# EAGLE library part WE-PPTI_1308 (library WE-PPTI)
WE-PPTI Push-Pull Transformers Characteristics Small size Surface mount Low profile Operating temp: -40°C to 125°C Functional or Reinforced Insulation Applications Isolated interface power supply for CAN, RS-485, RS-422, RS-232, SPI, I2C, lower-power LAN Industrial automation Process control Medical equipment PLC analog and digital I/O modules Isolated gate driver power supplies AC motor drives Uninterruptible power supplies (UPS) Solar inverters Polyphase energy meters Protection relays and IEDs <https://www.we-online.com/components/media/o715993v209%20Family-PPTI.jpg> Details see: www.we-online.com/en/components/products/WE-PPTI <www.we-online.com/catalog/WE-PPTI/?utm_source=eagle_model&utm_medium=description_link&utm_campaign=eisos_eagle> Updated by Ella Wu 2024-09-11 2024 (C) Würth Elektronik
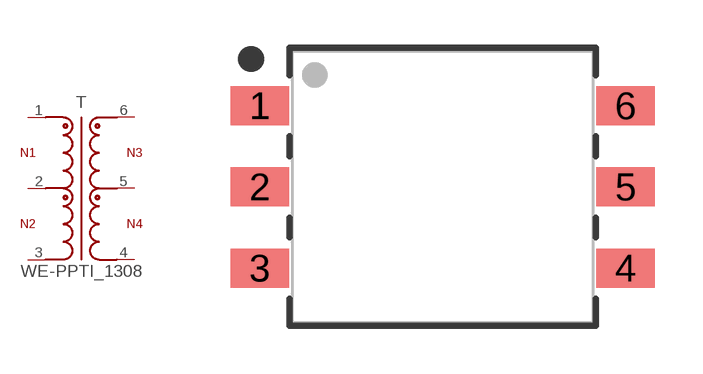
[diagram p0: symbol with the pads of WE-PPTI_1308_L13.12W8.5H5.5; footprint WE-PPTI_1308_L13.12W8.5H5.5]

Designator prefix T

## WE-PPTI_1308_750319690_L13.12W8.5H5.5 (DATASHEET-URL: https://www.we-online.com/redexpert/spec/750319690?ae; FSWITCH: 400 - 600kHz; HEIGHT: 5.5 mm; IOUT1: 700 mA; L: 100 uH; LENGTH: 13.12 mm; MOUNT: SMT; N: 1.75:1; PART-NUMBER: 750319690; SIZE: 1308; TYPE-OF-INSULATION: Functional; VALUE: 750319690; VIN: 12 V (DC); VOLTAGE-TIME: 18 Vus; VOUT1: 5 V (DC); VT: 2500 V (AC); WIDTH: 8.5 mm), WE-PPTI_1308_750319691_L13.12W8.5H5.5 (DATASHEET-URL: https://www.we-online.com/redexpert/spec/750319691?ae; FSWITCH: 400 - 600kHz; HEIGHT: 5.5 mm; IOUT1: 500 mA; L: 100 uH; LENGTH: 13.12 mm; MOUNT: SMT; N: 1:1.14; PART-NUMBER: 750319691; SIZE: 1308; TYPE-OF-INSULATION: Functional; VALUE: 750319691; VIN: 12 V (DC); VOLTAGE-TIME: 18 Vus; VOUT1: 12 V (DC); VT: 2500 V (AC); WIDTH: 8.5 mm), WE-PPTI_1308_750319692_L13.12W8.5H5.5 (DATASHEET-URL: https://www.we-online.com/redexpert/spec/750319692?ae; FSWITCH: 400 - 600kHz; HEIGHT: 5.5 mm; IOUT1: 400 mA; L: 260 uH; LENGTH: 13.12 mm; MOUNT: SMT; N: 1:1.33; PART-NUMBER: 750319692; SIZE: 1308; TYPE-OF-INSULATION: Functional; VALUE: 750319692; VIN: 12 V (DC); VOLTAGE-TIME: 23 Vus; VOUT1: 15 V (DC); VT: 2500 V (AC); WIDTH: 8.5 mm), WE-PPTI_1308_750319693_L13.12W8.5H5.5 (DATASHEET-URL: https://www.we-online.com/redexpert/spec/750319693?ae; FSWITCH: 400 - 600kHz; HEIGHT: 5.5 mm; IOUT1: 400 mA; L: 100 uH; LENGTH: 13.12 mm; MOUNT: SMT; N: 1:2.29; PART-NUMBER: 750319693; SIZE: 1308; TYPE-OF-INSULATION: Functional; VALUE: 750319693; VIN: 12 V (DC); VOLTAGE-TIME: 18 Vus; VOUT1: 24 V (DC); VT: 2500 V (AC); WIDTH: 8.5 mm), WE-PPTI_1308_750319694_L13.12W8.5H5.5 (DATASHEET-URL: https://www.we-online.com/redexpert/spec/750319694?ae; FSWITCH: 400 - 600kHz; HEIGHT: 5.5 mm; IOUT1: 750 mA; L: 600 uH; LENGTH: 13.12 mm; MOUNT: SMT; N: 4:1; PART-NUMBER: 750319694; SIZE: 1308; TYPE-OF-INSULATION: Functional; VALUE: 750319694; VIN: 24 V (DC); VOLTAGE-TIME: 40 Vus; VOUT1: 5 V (DC); VT: 2500 V (AC); WIDTH: 8.5 mm), WE-PPTI_1308_750319695_L13.12W8.5H5.5 (DATASHEET-URL: https://www.we-online.com/redexpert/spec/750319695?ae; FSWITCH: 400 - 600kHz; HEIGHT: 5.5 mm; IOUT1: 500 mA; L: 600 uH; LENGTH: 13.12 mm; MOUNT: SMT; N: 1.75:1; PART-NUMBER: 750319695; SIZE: 1308; TYPE-OF-INSULATION: Functional; VALUE: 750319695; VIN: 24 V (DC); VOLTAGE-TIME: 36 Vus; VOUT1: 12 V (DC); VT: 2500 V (AC); WIDTH: 8.5 mm), WE-PPTI_1308_750319696_L13.12W8.5H5.5 (DATASHEET-URL: https://www.we-online.com/redexpert/spec/750319696?ae; FSWITCH: 400 - 600kHz; HEIGHT: 5.5 mm; IOUT1: 400 mA; L: 500 uH; LENGTH: 13.12 mm; MOUNT: SMT; N: 1.4:1; PART-NUMBER: 750319696; SIZE: 1308; TYPE-OF-INSULATION: Functional; VALUE: 750319696; VIN: 24 V (DC); VOLTAGE-TIME: 36 Vus; VOUT1: 15 V (DC); VT: 2500 V (AC); WIDTH: 8.5 mm), WE-PPTI_1308_750319697_L13.12W8.5H5.5 (DATASHEET-URL: https://www.we-online.com/redexpert/spec/750319697?ae; FSWITCH: 400 - 600kHz; HEIGHT: 5.5 mm; IOUT1: 250 mA; L: 500 uH; LENGTH: 13.12 mm; MOUNT: SMT; N: 1:1.07; PART-NUMBER: 750319697; SIZE: 1308; TYPE-OF-INSULATION: Functional; VALUE: 750319697; VIN: 24 V (DC); VOLTAGE-TIME: 36 Vus; VOUT1: 24 V (DC); VT: 2500 V (AC); WIDTH: 8.5 mm), WE-PPTI_1308_750319948_L13.12W8.5H5.5 (DATASHEET-URL: https://www.we-online.com/redexpert/spec/750319948?ae; FSWITCH: 400 - 600kHz; HEIGHT: 5.5 mm; IOUT1: 200 mA; L: 600 uH; LENGTH: 13.12 mm; MOUNT: SMT; N: 1:1.36; PART-NUMBER: 750319948; SIZE: 1308; TYPE-OF-INSULATION: Functional; VALUE: 750319948; VIN: 24 V (DC); VOLTAGE-TIME: 36 Vus; VOUT1: 30 V (DC); VT: 2500 V (AC); WIDTH: 8.5 mm), WE-PPTI_1308_750319949_L13.12W8.5H5.5 (DATASHEET-URL: https://www.we-online.com/redexpert/spec/750319949?ae; FSWITCH: 400 - 600kHz; HEIGHT: 5.5 mm; IOUT1: 250 mA; L: 350 uH; LENGTH: 13.12 mm; MOUNT: SMT; N: 1:2.75; PART-NUMBER: 750319949; SIZE: 1308; TYPE-OF-INSULATION: Functional; VALUE: 750319949; VIN: 12 V (DC); VOLTAGE-TIME: 30 Vus; VOUT1: 30 V (DC); VT: 2500 V (AC); WIDTH: 8.5 mm), WE-PPTI_1308_750320324_L13.12W8.5H5.5 (DATASHEET-URL: https://www.we-online.com/redexpert/spec/750320324?ae; FSWITCH: 400 - 600kHz; HEIGHT: 5.5 mm; IOUT1: 1100 mA; L: 450 uH; LENGTH: 13.12 mm; MOUNT: SMT; N: 2.4:1; PART-NUMBER: 750320324; SIZE: 1308; TYPE-OF-INSULATION: Functional; VALUE: 750320324; VIN: 12 V (DC); VOLTAGE-TIME: 30 Vus; VOUT1: 3.3 V (DC); VT: 2500 V (AC); WIDTH: 8.5 mm), WE-PPTI_1308_750320325_L13.12W8.5H5.5 (DATASHEET-URL: https://www.we-online.com/redexpert/spec/750320325?ae; FSWITCH: 400 - 600kHz; HEIGHT: 5.5 mm; IOUT1: 1000 mA; L: 700 uH; LENGTH: 13.12 mm; MOUNT: SMT; N: 5.33:1; PART-NUMBER: 750320325; SIZE: 1308; TYPE-OF-INSULATION: Functional; VALUE: 750320325; VIN: 24 V (DC); VOLTAGE-TIME: 40 Vus; VOUT1: 3.3 V (DC); VT: 2500 V (AC); WIDTH: 8.5 mm)  [WE-PPTI_1308_L13.12W8.5H5.5]
1  1  pas
2  2  pas
3  3  pas
4  4  pas
5  5  pas
6  6  pas

## Footprint WE-PPTI_1308_L13.12W8.5H5.5 (pad centres in mm)
WE-PPTI Push-Pull Transformers Size: 1308, SMT, 10pins LXWXH=13.12x8.5x5.5mm
smd 1.82 x 1.22: 1 -5.725,2.54; 2 -5.725,0; 3 -5.725,-2.54; 4 5.725,-2.54; 5 5.725,0; 6 5.725,2.54